# EAGLE library part SWITCH_SLIDE (library JULIAN)
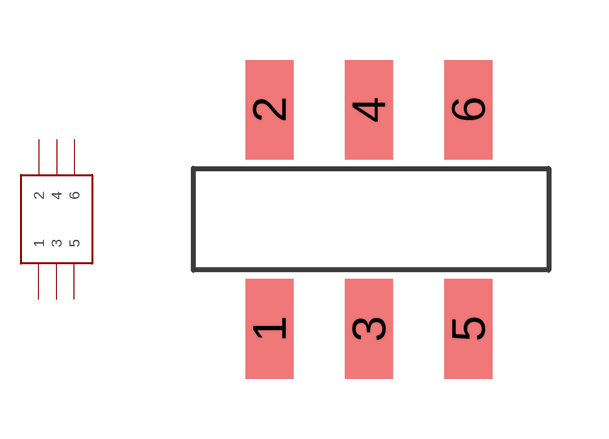
[diagram p0: symbol with the pads of SLIDESWT; footprint SLIDESWT]

Designator prefix -

## SWITCH_SLIDE  [SLIDESWT]
1  1
2  2
3  3
4  4
5  5
6  6

## Footprint SLIDESWT (pad centres in mm)
smd 1.194 x 2.489: 1 0,-2.743; 2 0,2.743; 3 2.489,-2.743; 4 2.489,2.743; 5 4.978,-2.743; 6 4.978,2.743